# Altium footprint library PcbLib_Discrete.PcbLib: 28 footprints (part 2 of 2)
Each footprint in its own frame and in the unit in brackets; x right, y up, seen from the top. Pads: shape width x height; smd on the part's side, far side on the other; paste and mask are expansions set on the pad; w line width, h text height; cw(c..) or ccw(c..) is an arc to the next point about the centre after c.
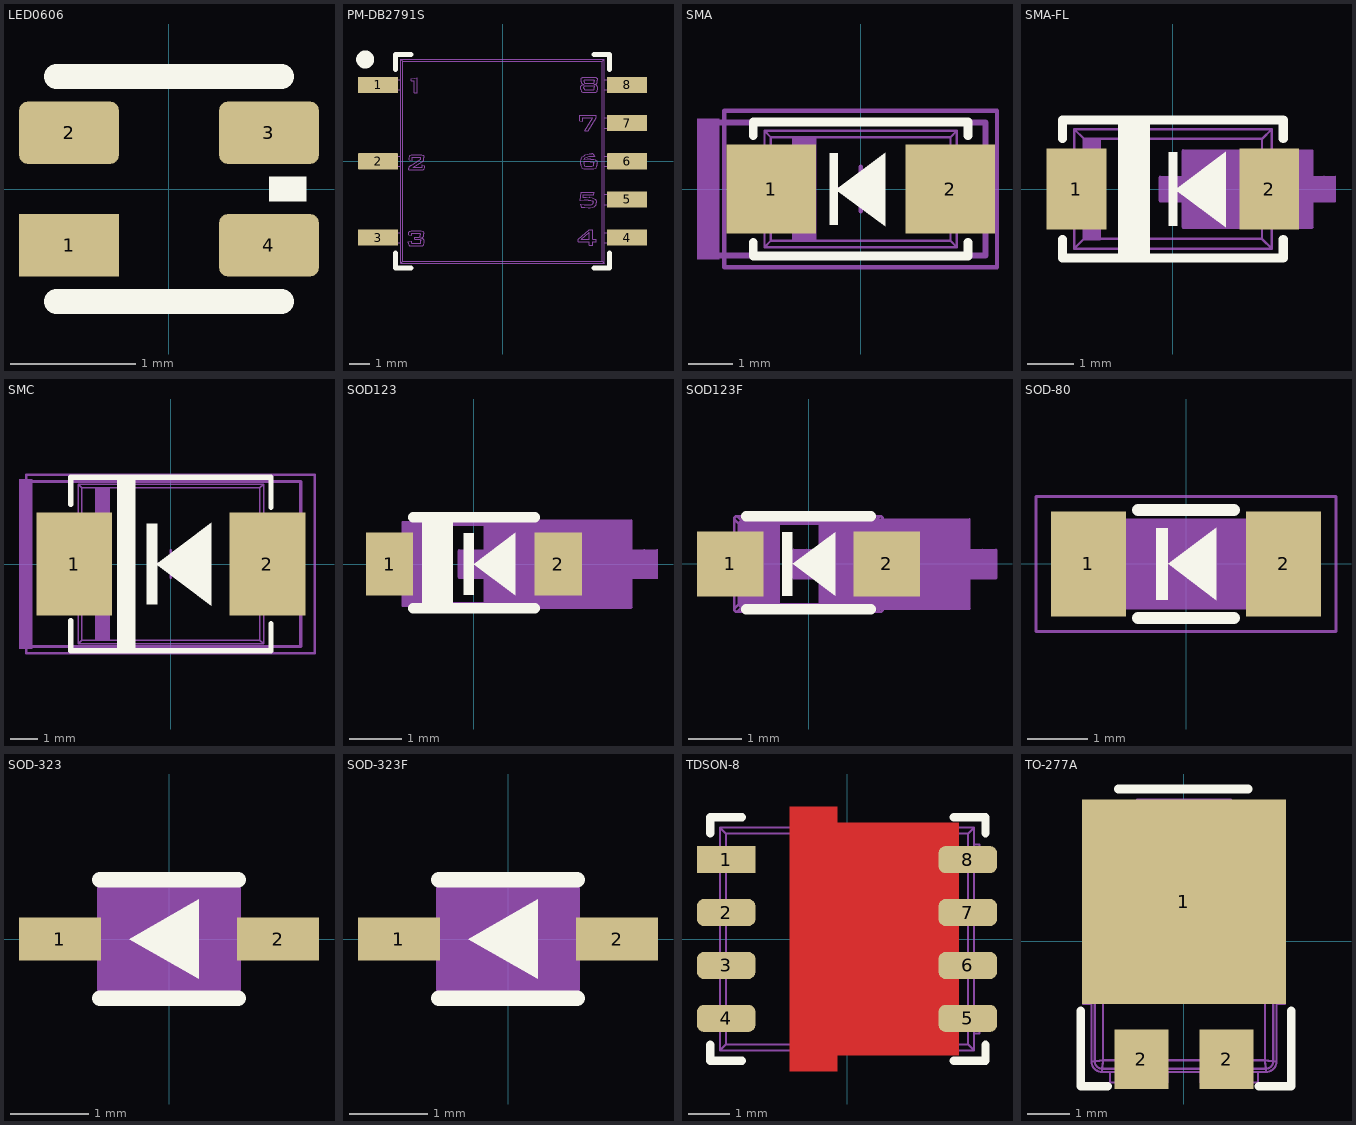
[diagram p1: the footprints below, top view; thin cyan lines are the x and y axes]

## LED0606 [mm] "RGB led 0606 (1616 Metric) package"
height 0.5
pads (4):
  rect 0.8x0.5 smd mask+0.1: 1(-0.8,-0.45)
  rrect30% 0.8x0.5 smd mask+0.1: 2(-0.8,0.45) 3(0.8,0.45) 4(0.8,-0.45)
Top Overlay:
  rectangle: 0.8,-0.1 1.1,0.1
  lines w0.2: -0.9,-0.9 0.9,-0.9 ; -0.9,0.9 0.9,0.9
3D body "STEP-WL-SFCD-0606-rev1.stp": height 0.4, standoff 0, extent -0.8,-0.8 0.8,0.8

## PM-DB2791S [mm]
height 1.1
pads (8):
  rrect5% 2x0.8 smd mask+0.1: 1(-6.215,3.81) 2(-6.215,0) 3(-6.215,-3.81) 4(6.215,-3.81) 5(6.215,-1.905) 6(6.215,0) 7(6.215,1.905) 8(6.215,3.81)
Top Overlay:
  circle w0.5: c-6.858,5.08 r0.2
  lines w0.254: -5.334,-4.572 -5.334,-5.334 -4.572,-5.334 ; -5.334,4.572 -5.334,5.334 -4.572,5.334 ; 4.572,-5.334 5.334,-5.334 5.334,-4.572 ; 4.572,5.334 5.334,5.334 5.334,4.572
Mechanical 13:
  drawing of 452 lines, arcs and shapes, not listed
  text ".Designator" at -3.443,-0.467 h2
3D body "PM-DB2791S.STEP": height 5.58, standoff -0.05, extent -6.361,-5.07 6.341,5.09

## SMA [mm] "Molded Diode, 2-Leads, Body 4.3x2.6mm, IPC Medium Density, based on OnSemi component dimensions and land pattern"
height 2.27
pads (2):
  rect 2x2 smd: 1(-2,0) 2(2,0)
Top Overlay:
  rectangle: -0.7,-0.8 -0.5,0.8
  region: 0.55,0.812 -0.55,-0.013 0.55,-0.838
  lines w0.2: -2.4,-1.2 -2.4,-1.5 2.4,-1.5 2.4,-1.2 ; -2.4,1.2 -2.4,1.5 2.4,1.5 2.4,1.2
Mechanical 5:
  rectangle: -3.658,-1.575 -3.15,1.575
  lines w0.127: -3.327,-1.486 2.794,-1.486 2.794,1.486 -3.327,1.486
  text ".Designator" at -2.769,-0.33 h1.02
Mechanical 13:
  rectangle: -1.511,-1.159 -1.011,1.159
  lines w0.05: -2.45,-0.75 -2.45,0.75 ; -2.45,-0.75 -2.15,-0.75 ; -2.45,-0.75 -2.6,-0.75 -2.6,0.75 -2.45,0.75 ; -2.45,0.75 -2.15,0.75 ; -2.15,-1.3 -2.15,-0.75 ; -2.15,-1.3 -2.011,-1.159 ; -2.15,-1.3 2.15,-1.3 ; -2.15,-0.75 -2.15,0.75 ; -2.15,0.75 -2.15,1.3 ; -2.15,1.3 -2.011,1.159 ; -2.15,1.3 2.15,1.3 ; -2.011,-1.159 -2.011,1.159 ; -2.011,-1.159 -1.511,-1.159 ; -2.011,1.159 -1.511,1.159 ; -1.511,-1.159 -1.511,1.159 ; -1.511,-1.159 -1.011,-1.159 ; -1.511,1.159 -1.011,1.159 ; -1.011,-1.159 -1.011,1.159 ; -1.011,-1.159 2.011,-1.159 ; -1.011,1.159 2.011,1.159 ; 2.011,-1.159 2.011,1.159 ; 2.011,-1.159 2.15,-1.3 ; 2.011,1.159 2.15,1.3 ; 2.15,-1.3 2.15,-0.75 ; 2.15,-0.75 2.45,-0.75 ; 2.15,-0.75 2.15,0.75 ; 2.15,0.75 2.45,0.75 ; 2.15,0.75 2.15,1.3 ; 2.45,-0.75 2.45,0.75 ; 2.45,-0.75 2.6,-0.75 2.6,0.75 2.45,0.75
  text ".Designator" at -2.579,-0.349 h1.5
Mechanical 15:
  lines w0.1: -0.5,0 0.5,0 ; 0,-0.5 0,0.5 ; -3.05,-1.75 -3.05,1.75 3.05,1.75 3.05,-1.75 -3.05,-1.75
3D body "SMA_nominal.stp": height 2.42, standoff 0.02, extent -2.6,-1.3 2.6,1.3

## SMA-FL [mm] "SMA-FL Case 403AA Style 6"
pads (2):
  rect 1.3x1.76 smd: 1(-2.1,0) 2(2.1,0)
Top Overlay:
  rectangle: -0.1,-0.8 0.1,0.8
  rectangle: -1.2,-1.5 -0.5,1.4
  region: 1.15,0.812 0.05,-0.013 1.15,-0.838
  lines w0.2: -2.4,-1.1 -2.4,-1.5 2.4,-1.5 2.4,-1.1 ; -2.4,1.1 -2.4,1.5 2.4,1.5 2.4,1.1
Mechanical 3:
  lines w0.013: 0.2,-0.275 0.1,-0.275 ; 0.2,0.275 0.1,0.275 ; 3.05,-0.275 3.15,-0.275 ; 3.05,0.275 3.15,0.275 ; -0.3,-0.255 ccw(c-0.28,-0.255) -0.28,-0.275 ; -0.3,-0.255 -0.28,-0.255 ; -0.3,-0.255 -0.3,0.255 ; -0.3,0.255 cw(c-0.28,0.255) -0.28,0.275 ; -0.3,0.255 -0.28,0.255 ; -0.28,-0.275 -0.28,-0.255 ; -0.28,-0.275 -0.1,-0.275 ; -0.28,-0.255 -0.28,0.255 ; -0.28,-0.255 -0.1,-0.255 ; -0.28,0.255 -0.28,0.275 ; -0.28,0.255 -0.1,0.255 ; -0.28,0.275 -0.1,0.275 ; -0.1,-0.275 -0.1,-0.255 ; -0.1,-0.275 -0.03,-0.275 ; -0.1,-0.255 -0.1,0.255 ; -0.1,-0.255 -0.05,-0.255 ; -0.1,0.255 -0.1,0.275 ; -0.1,0.255 -0.05,0.255 ; -0.1,0.275 -0.03,0.275 ; -0.05,-0.255 ccw(c-0.03,-0.255) -0.03,-0.275 ; -0.05,-0.255 0.1,-0.255 ; -0.05,-0.255 -0.05,0.255 ; -0.05,0.255 cw(c-0.03,0.255) -0.03,0.275 ; -0.05,0.255 0.1,0.255 ; -0.03,-0.275 0.1,-0.275 ; -0.03,0.275 0.1,0.275 ; 0.1,-0.275 0.1,-0.255 ; 0.1,-0.255 0.1,0.255 ; 0.1,-0.255 0.2,-0.255 ; 0.1,0.255 0.1,0.275 ; 0.1,0.255 0.2,0.255 ; 0.2,-0.83 ccw(c0.22,-0.83) 0.22,-0.85 ; 0.2,-0.83 0.266,-0.764 ; 0.2,-0.83 0.2,-0.255 ; 0.2,-0.83 0.2,-0.83 ; 0.2,-0.255 0.2,0.255 ; 0.2,0.255 0.2,0.83 ; 0.2,0.83 cw(c0.22,0.83) 0.22,0.85 ; 0.2,0.83 0.266,0.764 ; 0.2,0.83 0.2,0.83 ; 0.22,-0.85 0.286,-0.784 ; 0.22,-0.85 0.22,-0.85 ; 0.22,-0.85 3.03,-0.85 ; 0.22,0.85 0.286,0.784 ; 0.22,0.85 0.22,0.85 ; 0.22,0.85 3.03,0.85 ; 0.266,-0.764 ccw(c0.286,-0.764) 0.286,-0.784 ; 0.266,-0.764 0.266,0.764 ; 0.266,-0.764 0.286,-0.764 ; 0.266,0.764 cw(c0.286,0.764) 0.286,0.784 ; 0.266,0.764 0.286,0.764 ; 0.286,-0.784 2.964,-0.784 ; 0.286,-0.784 0.286,-0.764 ; 0.286,-0.764 0.286,0.764 ; 0.286,-0.764 0.736,-0.764 ; 0.286,0.764 0.286,0.784 ; 0.286,0.764 0.736,0.764 ; 0.286,0.784 2.964,0.784 ; 0.736,-0.764 2.964,-0.764 ; 0.736,-0.764 0.736,0.764 ; 0.736,0.764 2.964,0.764 ; 2.964,-0.784 ccw(c2.964,-0.764) 2.984,-0.764 ; 2.964,-0.784 3.03,-0.85 ; 2.964,-0.784 2.964,-0.764 ; 2.964,-0.764 2.984,-0.764 ; 2.964,-0.764 2.964,0.764 ; 2.964,0.764 2.984,0.764 ; 2.964,0.764 2.964,0.784 ; 2.964,0.784 cw(c2.964,0.764) 2.984,0.764 ; 2.964,0.784 3.03,0.85 ; 2.984,-0.764 3.05,-0.83 ; 2.984,-0.764 2.984,0.764 ; 2.984,0.764 3.05,0.83 ; 3.03,-0.85 ccw(c3.03,-0.83) 3.05,-0.83 ; 3.03,-0.85 3.03,-0.85 ; 3.03,0.85 cw(c3.03,0.83) 3.05,0.83 ; 3.03,0.85 3.03,0.85 ; 3.05,-0.83 3.05,-0.83 ; 3.05,-0.83 3.05,-0.255 ; 3.05,-0.255 3.15,-0.255 ; 3.05,-0.255 3.05,0.255 ; 3.05,0.255 3.15,0.255 ; 3.05,0.255 3.05,0.83 ; 3.05,0.83 3.05,0.83 ; 3.15,-0.275 3.15,-0.255 ; 3.15,-0.275 3.28,-0.275 ; 3.15,-0.255 3.3,-0.255 ; 3.15,-0.255 3.15,0.255 ; 3.15,0.255 3.3,0.255 ; 3.15,0.255 3.15,0.275 ; 3.15,0.275 3.28,0.275 ; 3.28,-0.275 ccw(c3.28,-0.255) 3.3,-0.255 ; 3.28,-0.275 3.35,-0.275 ; 3.28,0.275 cw(c3.28,0.255) 3.3,0.255 ; 3.28,0.275 3.35,0.275 ; 3.3,-0.255 3.35,-0.255 ; 3.3,-0.255 3.3,0.255 ; 3.3,0.255 3.35,0.255 ; 3.35,-0.275 3.35,-0.255 ; 3.35,-0.275 3.53,-0.275 ; 3.35,-0.255 3.53,-0.255 ; 3.35,-0.255 3.35,0.255 ; 3.35,0.255 3.53,0.255 ; 3.35,0.255 3.35,0.275 ; 3.35,0.275 3.53,0.275 ; 3.53,-0.275 ccw(c3.53,-0.255) 3.55,-0.255 ; 3.53,-0.275 3.53,-0.255 ; 3.53,-0.255 3.55,-0.255 ; 3.53,-0.255 3.53,0.255 ; 3.53,0.255 3.53,0.275 ; 3.53,0.255 3.55,0.255 ; 3.53,0.275 cw(c3.53,0.255) 3.55,0.255 ; 3.55,-0.255 3.55,0.255
  text ".Designator" at 0.825,-0.35 h1
Mechanical 4:
  rectangle: 0.2,-0.85 3.05,0.85
  rectangle: -0.3,-0.275 0.2,0.275
  rectangle: 3.05,-0.275 3.55,0.275
Mechanical 13:
  rectangle: -1.941,-1.086 -1.586,1.096
  lines w0.05: -2.147,-0.722 -2.147,-1.297 ; -2.147,0.728 -2.147,1.303 ; -1.586,-1.086 1.941,-1.086 ; -1.586,1.091 1.941,1.091 ; 2.153,-0.722 2.153,-1.297 ; 2.153,0.728 2.153,1.303 ; -2.147,-1.297 -1.941,-1.091 ; -2.147,-1.297 2.153,-1.297 ; -2.147,1.303 -1.941,1.096 ; -2.147,1.303 2.153,1.303 ; -1.941,-1.091 -1.941,1.096 ; -1.941,-1.091 -1.586,-1.091 -1.586,1.096 -1.941,1.096 ; 1.941,-1.086 2.153,-1.297 ; 1.941,-1.086 1.941,1.091 ; 1.941,1.091 2.153,1.303 ; -2.547,-0.722 -2.077,-0.722 -2.077,0.728 -2.547,0.728 -2.547,-0.722 ; 2.082,-0.722 2.553,-0.722 2.553,0.728 2.082,0.728 2.082,-0.722
  text ".Designator" at -2.064,-0.28 h1.2
3D body "User Library-sma-fl.step": height 1.25, standoff 0.05, extent -2.55,-1.3 2.55,1.3

## SMC [mil] "Molded Diode, 2-Leads, Body 6.9x5.8mm, IPC Medium Density, based on OnSemi component dimensions and land patterns"
height 94.88
pads (2):
  rect 110x150 smd: 1(-140.49,0) 2(140.49,0)
Top Overlay:
  rectangle: -35.43,-59.06 -19.68,59.06
  rectangle: -78.74,-125.98 -51.18,125.98
  region: 59.06,60.04 -21.65,-0.49 59.06,-61.02
  lines w7.87: -145.67,-82.68 -145.67,-125.98 145.67,-125.98 145.67,-86.61 ; -145.67,86.61 -145.67,125.98 145.67,125.98 145.67,82.68
Mechanical 5:
  rectangle: -221,-123.5 -201,123.5
  lines w5: -210,-120 189,-120 189,120 -210,120
  text ".Designator" at -85,-20 h40
Mechanical 13:
  rectangle: -109.68,-110.61 -89.99,110.61
  lines w1.97: -150.59,-59.06 -134.84,-59.06 ; -150.59,-59.06 -156.5,-59.06 -156.5,59.06 -150.59,59.06 ; -150.59,-59.06 -150.59,59.06 ; -150.59,59.06 -134.84,59.06 ; -134.84,-116.14 134.84,-116.14 ; -134.84,-116.14 -129.36,-110.61 ; -134.84,-116.14 -134.84,-59.06 ; -134.84,-59.06 -134.84,59.06 ; -134.84,59.06 -134.84,116.14 ; -134.84,116.14 134.84,116.14 ; -134.84,116.14 -129.36,110.61 ; -129.36,-110.61 -109.68,-110.61 ; -129.36,-110.61 -129.36,110.61 ; -129.36,110.61 -109.68,110.61 ; -109.68,-110.61 -89.99,-110.61 ; -109.68,-110.61 -109.68,110.61 ; -109.68,110.61 -89.99,110.61 ; -89.99,-110.61 129.36,-110.61 ; -89.99,-110.61 -89.99,110.61 ; -89.99,110.61 129.36,110.61 ; 129.36,-110.61 134.84,-116.14 ; 129.36,-110.61 129.36,110.61 ; 129.36,110.61 134.84,116.14 ; 134.84,-116.14 134.84,-59.06 ; 134.84,-59.06 134.84,59.06 ; 134.84,-59.06 150.59,-59.06 ; 134.84,59.06 134.84,116.14 ; 134.84,59.06 150.59,59.06 ; 150.59,-59.06 156.5,-59.06 156.5,59.06 150.59,59.06 ; 150.59,-59.06 150.59,59.06
  text ".Designator" at -135.56,-18.37 h78.74
Mechanical 15:
  lines w3.94: -19.69,0 19.68,0 ; 0,-19.68 0,19.69 ; -210.46,-129.92 -210.46,129.92 209.38,129.92 209.38,-129.92 -210.46,-129.92
3D body "SMC_nominal.stp": height 91.35, standoff 0.6, extent -156.49,-116.13 156.5,116.15

## SOD123 [mm]
pads (2):
  rect 0.91x1.22 smd: 1(-1.625,0) 2(1.625,0)
Top Overlay:
  rectangle: -1,-0.9 -0.4,0.9
  rectangle: -0.2,-0.6 0,0.6
  region: 0.8,0.6 0,0 0.8,-0.6
  lines w0.2: -1.175,-0.85 1.175,-0.85 ; -1.175,0.9 1.175,0.9
Mechanical 3:
  lines w0.013: 0.2,-0.275 0.1,-0.275 ; 0.2,0.275 0.1,0.275 ; 3.05,-0.275 3.15,-0.275 ; 3.05,0.275 3.15,0.275 ; -0.3,-0.255 ccw(c-0.28,-0.255) -0.28,-0.275 ; -0.3,-0.255 -0.3,0.255 ; -0.3,-0.255 -0.28,-0.255 ; -0.3,0.255 cw(c-0.28,0.255) -0.28,0.275 ; -0.3,0.255 -0.28,0.255 ; -0.28,-0.275 -0.1,-0.275 ; -0.28,-0.275 -0.28,-0.255 ; -0.28,-0.255 -0.1,-0.255 ; -0.28,-0.255 -0.28,0.255 ; -0.28,0.255 -0.1,0.255 ; -0.28,0.255 -0.28,0.275 ; -0.28,0.275 -0.1,0.275 ; -0.1,-0.275 -0.03,-0.275 ; -0.1,-0.275 -0.1,-0.255 ; -0.1,-0.255 -0.05,-0.255 ; -0.1,-0.255 -0.1,0.255 ; -0.1,0.255 -0.05,0.255 ; -0.1,0.255 -0.1,0.275 ; -0.1,0.275 -0.03,0.275 ; -0.05,-0.255 ccw(c-0.03,-0.255) -0.03,-0.275 ; -0.05,-0.255 -0.05,0.255 ; -0.05,-0.255 0.1,-0.255 ; -0.05,0.255 cw(c-0.03,0.255) -0.03,0.275 ; -0.05,0.255 0.1,0.255 ; -0.03,-0.275 0.1,-0.275 ; -0.03,0.275 0.1,0.275 ; 0.1,-0.275 0.1,-0.255 ; 0.1,-0.255 0.2,-0.255 ; 0.1,-0.255 0.1,0.255 ; 0.1,0.255 0.2,0.255 ; 0.1,0.255 0.1,0.275 ; 0.2,-0.83 ccw(c0.22,-0.83) 0.22,-0.85 ; 0.2,-0.83 0.2,-0.83 ; 0.2,-0.83 0.2,-0.255 ; 0.2,-0.83 0.266,-0.764 ; 0.2,-0.255 0.2,0.255 ; 0.2,0.255 0.2,0.83 ; 0.2,0.83 cw(c0.22,0.83) 0.22,0.85 ; 0.2,0.83 0.2,0.83 ; 0.2,0.83 0.266,0.764 ; 0.22,-0.85 3.03,-0.85 ; 0.22,-0.85 0.22,-0.85 ; 0.22,-0.85 0.286,-0.784 ; 0.22,0.85 3.03,0.85 ; 0.22,0.85 0.22,0.85 ; 0.22,0.85 0.286,0.784 ; 0.266,-0.764 ccw(c0.286,-0.764) 0.286,-0.784 ; 0.266,-0.764 0.286,-0.764 ; 0.266,-0.764 0.266,0.764 ; 0.266,0.764 cw(c0.286,0.764) 0.286,0.784 ; 0.266,0.764 0.286,0.764 ; 0.286,-0.784 0.286,-0.764 ; 0.286,-0.784 2.964,-0.784 ; 0.286,-0.764 0.736,-0.764 ; 0.286,-0.764 0.286,0.764 ; 0.286,0.764 0.736,0.764 ; 0.286,0.764 0.286,0.784 ; 0.286,0.784 2.964,0.784 ; 0.736,-0.764 0.736,0.764 ; 0.736,-0.764 2.964,-0.764 ; 0.736,0.764 2.964,0.764 ; 2.964,-0.784 ccw(c2.964,-0.764) 2.984,-0.764 ; 2.964,-0.784 2.964,-0.764 ; 2.964,-0.784 3.03,-0.85 ; 2.964,-0.764 2.964,0.764 ; 2.964,-0.764 2.984,-0.764 ; 2.964,0.764 2.964,0.784 ; 2.964,0.764 2.984,0.764 ; 2.964,0.784 cw(c2.964,0.764) 2.984,0.764 ; 2.964,0.784 3.03,0.85 ; 2.984,-0.764 2.984,0.764 ; 2.984,-0.764 3.05,-0.83 ; 2.984,0.764 3.05,0.83 ; 3.03,-0.85 ccw(c3.03,-0.83) 3.05,-0.83 ; 3.03,-0.85 3.03,-0.85 ; 3.03,0.85 cw(c3.03,0.83) 3.05,0.83 ; 3.03,0.85 3.03,0.85 ; 3.05,-0.83 3.05,-0.255 ; 3.05,-0.83 3.05,-0.83 ; 3.05,-0.255 3.05,0.255 ; 3.05,-0.255 3.15,-0.255 ; 3.05,0.255 3.05,0.83 ; 3.05,0.255 3.15,0.255 ; 3.05,0.83 3.05,0.83 ; 3.15,-0.275 3.28,-0.275 ; 3.15,-0.275 3.15,-0.255 ; 3.15,-0.255 3.15,0.255 ; 3.15,-0.255 3.3,-0.255 ; 3.15,0.255 3.15,0.275 ; 3.15,0.255 3.3,0.255 ; 3.15,0.275 3.28,0.275 ; 3.28,-0.275 ccw(c3.28,-0.255) 3.3,-0.255 ; 3.28,-0.275 3.35,-0.275 ; 3.28,0.275 cw(c3.28,0.255) 3.3,0.255 ; 3.28,0.275 3.35,0.275 ; 3.3,-0.255 3.3,0.255 ; 3.3,-0.255 3.35,-0.255 ; 3.3,0.255 3.35,0.255 ; 3.35,-0.275 3.53,-0.275 ; 3.35,-0.275 3.35,-0.255 ; 3.35,-0.255 3.35,0.255 ; 3.35,-0.255 3.53,-0.255 ; 3.35,0.255 3.35,0.275 ; 3.35,0.255 3.53,0.255 ; 3.35,0.275 3.53,0.275 ; 3.53,-0.275 ccw(c3.53,-0.255) 3.55,-0.255 ; 3.53,-0.275 3.53,-0.255 ; 3.53,-0.255 3.53,0.255 ; 3.53,-0.255 3.55,-0.255 ; 3.53,0.255 3.55,0.255 ; 3.53,0.255 3.53,0.275 ; 3.53,0.275 cw(c3.53,0.255) 3.55,0.255 ; 3.55,-0.255 3.55,0.255
  text ".Designator" at 0.825,-0.35 h1
Mechanical 4:
  rectangle: 3.05,-0.275 3.55,0.275
  rectangle: -0.3,-0.275 0.2,0.275
  rectangle: 0.2,-0.85 3.05,0.85
Mechanical 13:
  rectangle: -1.336,-0.761 -0.536,0.761
  lines w0.05: -1.85,-0.3 -1.375,-0.3 ; -1.85,-0.3 -1.85,0.3 ; -1.85,-0.3 -1.85,0.3 ; -1.85,-0.3 -1.55,-0.3 ; -1.85,0.3 -1.375,0.3 ; -1.85,0.3 -1.55,0.3 ; -1.55,-0.3 -1.55,0.3 ; -1.55,-0.3 -1.375,-0.3 ; -1.55,0.3 -1.375,0.3 ; -1.375,-0.8 -1.375,-0.3 ; -1.375,-0.8 1.375,-0.8 ; -1.375,-0.8 1.375,-0.8 ; -1.375,-0.8 -1.336,-0.761 ; -1.375,-0.8 -1.375,0.8 ; -1.375,0.3 -1.375,0.8 ; -1.375,0.8 1.375,0.8 ; -1.375,0.8 -1.336,0.761 ; -1.375,0.8 1.375,0.8 ; -1.336,-0.761 -0.536,-0.761 ; -1.336,-0.761 -1.336,0.761 ; -1.336,0.761 -0.536,0.761 ; -0.536,-0.761 1.336,-0.761 ; -0.536,-0.761 -0.536,0.761 ; -0.536,0.761 1.336,0.761 ; 1.336,-0.761 1.375,-0.8 ; 1.336,-0.761 1.336,0.761 ; 1.336,0.761 1.375,0.8 ; 1.375,-0.8 1.375,-0.3 ; 1.375,-0.8 1.375,0.8 ; 1.375,-0.3 1.85,-0.3 ; 1.375,-0.3 1.55,-0.3 ; 1.375,0.3 1.85,0.3 ; 1.375,0.3 1.375,0.8 ; 1.375,0.3 1.55,0.3 ; 1.55,-0.3 1.55,0.3 ; 1.55,-0.3 1.85,-0.3 ; 1.55,0.3 1.85,0.3 ; 1.85,-0.3 1.85,0.3 ; 1.85,-0.3 1.85,0.3
  text ".Designator" at -1.564,-0.28 h1.2
3D body "SOD123.STEP": height 1.46, standoff 0.01, extent -1.925,-0.85 1.925,0.85

## SOD123F [mm]
pads (2):
  rect 1.25x1.22 smd: 1(-1.475,0) 2(1.475,0)
Top Overlay:
  rectangle: -0.5,-0.6 -0.3,0.6
  region: 0.5,0.6 -0.3,0 0.5,-0.6
  lines w0.2: -1.175,-0.85 1.175,-0.85 ; -1.175,0.9 1.175,0.9
Mechanical 3:
  lines w0.013: 0.2,-0.275 0.1,-0.275 ; 0.2,0.275 0.1,0.275 ; 3.05,-0.275 3.15,-0.275 ; 3.05,0.275 3.15,0.275 ; -0.3,-0.255 ccw(c-0.28,-0.255) -0.28,-0.275 ; -0.3,-0.255 -0.28,-0.255 ; -0.3,-0.255 -0.3,0.255 ; -0.3,0.255 cw(c-0.28,0.255) -0.28,0.275 ; -0.3,0.255 -0.28,0.255 ; -0.28,-0.275 -0.28,-0.255 ; -0.28,-0.275 -0.1,-0.275 ; -0.28,-0.255 -0.28,0.255 ; -0.28,-0.255 -0.1,-0.255 ; -0.28,0.255 -0.28,0.275 ; -0.28,0.255 -0.1,0.255 ; -0.28,0.275 -0.1,0.275 ; -0.1,-0.275 -0.1,-0.255 ; -0.1,-0.275 -0.03,-0.275 ; -0.1,-0.255 -0.1,0.255 ; -0.1,-0.255 -0.05,-0.255 ; -0.1,0.255 -0.1,0.275 ; -0.1,0.255 -0.05,0.255 ; -0.1,0.275 -0.03,0.275 ; -0.05,-0.255 ccw(c-0.03,-0.255) -0.03,-0.275 ; -0.05,-0.255 0.1,-0.255 ; -0.05,-0.255 -0.05,0.255 ; -0.05,0.255 cw(c-0.03,0.255) -0.03,0.275 ; -0.05,0.255 0.1,0.255 ; -0.03,-0.275 0.1,-0.275 ; -0.03,0.275 0.1,0.275 ; 0.1,-0.275 0.1,-0.255 ; 0.1,-0.255 0.1,0.255 ; 0.1,-0.255 0.2,-0.255 ; 0.1,0.255 0.1,0.275 ; 0.1,0.255 0.2,0.255 ; 0.2,-0.83 ccw(c0.22,-0.83) 0.22,-0.85 ; 0.2,-0.83 0.266,-0.764 ; 0.2,-0.83 0.2,-0.255 ; 0.2,-0.83 0.2,-0.83 ; 0.2,-0.255 0.2,0.255 ; 0.2,0.255 0.2,0.83 ; 0.2,0.83 cw(c0.22,0.83) 0.22,0.85 ; 0.2,0.83 0.266,0.764 ; 0.2,0.83 0.2,0.83 ; 0.22,-0.85 0.286,-0.784 ; 0.22,-0.85 0.22,-0.85 ; 0.22,-0.85 3.03,-0.85 ; 0.22,0.85 0.286,0.784 ; 0.22,0.85 0.22,0.85 ; 0.22,0.85 3.03,0.85 ; 0.266,-0.764 ccw(c0.286,-0.764) 0.286,-0.784 ; 0.266,-0.764 0.266,0.764 ; 0.266,-0.764 0.286,-0.764 ; 0.266,0.764 cw(c0.286,0.764) 0.286,0.784 ; 0.266,0.764 0.286,0.764 ; 0.286,-0.784 2.964,-0.784 ; 0.286,-0.784 0.286,-0.764 ; 0.286,-0.764 0.286,0.764 ; 0.286,-0.764 0.736,-0.764 ; 0.286,0.764 0.286,0.784 ; 0.286,0.764 0.736,0.764 ; 0.286,0.784 2.964,0.784 ; 0.736,-0.764 2.964,-0.764 ; 0.736,-0.764 0.736,0.764 ; 0.736,0.764 2.964,0.764 ; 2.964,-0.784 ccw(c2.964,-0.764) 2.984,-0.764 ; 2.964,-0.784 3.03,-0.85 ; 2.964,-0.784 2.964,-0.764 ; 2.964,-0.764 2.984,-0.764 ; 2.964,-0.764 2.964,0.764 ; 2.964,0.764 2.984,0.764 ; 2.964,0.764 2.964,0.784 ; 2.964,0.784 cw(c2.964,0.764) 2.984,0.764 ; 2.964,0.784 3.03,0.85 ; 2.984,-0.764 3.05,-0.83 ; 2.984,-0.764 2.984,0.764 ; 2.984,0.764 3.05,0.83 ; 3.03,-0.85 ccw(c3.03,-0.83) 3.05,-0.83 ; 3.03,-0.85 3.03,-0.85 ; 3.03,0.85 cw(c3.03,0.83) 3.05,0.83 ; 3.03,0.85 3.03,0.85 ; 3.05,-0.83 3.05,-0.83 ; 3.05,-0.83 3.05,-0.255 ; 3.05,-0.255 3.15,-0.255 ; 3.05,-0.255 3.05,0.255 ; 3.05,0.255 3.15,0.255 ; 3.05,0.255 3.05,0.83 ; 3.05,0.83 3.05,0.83 ; 3.15,-0.275 3.15,-0.255 ; 3.15,-0.275 3.28,-0.275 ; 3.15,-0.255 3.3,-0.255 ; 3.15,-0.255 3.15,0.255 ; 3.15,0.255 3.3,0.255 ; 3.15,0.255 3.15,0.275 ; 3.15,0.275 3.28,0.275 ; 3.28,-0.275 ccw(c3.28,-0.255) 3.3,-0.255 ; 3.28,-0.275 3.35,-0.275 ; 3.28,0.275 cw(c3.28,0.255) 3.3,0.255 ; 3.28,0.275 3.35,0.275 ; 3.3,-0.255 3.35,-0.255 ; 3.3,-0.255 3.3,0.255 ; 3.3,0.255 3.35,0.255 ; 3.35,-0.275 3.35,-0.255 ; 3.35,-0.275 3.53,-0.275 ; 3.35,-0.255 3.53,-0.255 ; 3.35,-0.255 3.35,0.255 ; 3.35,0.255 3.53,0.255 ; 3.35,0.255 3.35,0.275 ; 3.35,0.275 3.53,0.275 ; 3.53,-0.275 ccw(c3.53,-0.255) 3.55,-0.255 ; 3.53,-0.275 3.53,-0.255 ; 3.53,-0.255 3.55,-0.255 ; 3.53,-0.255 3.53,0.255 ; 3.53,0.255 3.53,0.275 ; 3.53,0.255 3.55,0.255 ; 3.53,0.275 cw(c3.53,0.255) 3.55,0.255 ; 3.55,-0.255 3.55,0.255
  text ".Designator" at 0.825,-0.35 h1
Mechanical 4:
  rectangle: 0.2,-0.85 3.05,0.85
  rectangle: -0.3,-0.275 0.2,0.275
  rectangle: 3.05,-0.275 3.55,0.275
Mechanical 13:
  rectangle: -1.336,-0.761 -0.536,0.761
  lines w0.05: -1.4,-0.5 -1.9,-0.5 -1.9,0.5 -1.4,0.5 ; 1.4,-0.5 1.9,-0.5 1.9,0.5 1.4,0.5 ; -1.4,-0.85 ccw(c-1.349,-0.849) -1.35,-0.9 ; -1.4,-0.85 ccw(c-1.35,-0.85) -1.35,-0.9 ; -1.4,-0.85 -1.4,-0.85 ; -1.4,-0.85 -1.4,0.85 ; -1.4,-0.85 -1.305,-0.756 ; -1.4,-0.85 -1.4,0.85 ; -1.4,0.85 cw(c-1.349,0.849) -1.35,0.9 ; -1.4,0.85 cw(c-1.35,0.85) -1.35,0.9 ; -1.4,0.85 -1.4,0.85 ; -1.4,0.85 -1.305,0.756 ; -1.35,-0.9 -1.35,-0.9 ; -1.35,-0.9 1.35,-0.9 ; -1.35,-0.9 1.35,-0.9 ; -1.35,-0.9 -1.256,-0.805 ; -1.35,0.9 -1.35,0.9 ; -1.35,0.9 1.35,0.9 ; -1.35,0.9 -1.256,0.805 ; -1.35,0.9 1.35,0.9 ; -1.305,-0.756 ccw(c-1.255,-0.755) -1.256,-0.805 ; -1.305,-0.756 -1.305,0.756 ; -1.305,-0.756 -1.256,-0.756 ; -1.305,0.756 cw(c-1.255,0.755) -1.256,0.805 ; -1.305,0.756 -1.256,0.756 ; -1.256,-0.805 1.256,-0.805 ; -1.256,-0.805 -1.256,-0.756 ; -1.256,-0.756 -1.256,0.756 ; -1.256,-0.756 -1.049,-0.756 ; -1.256,0.756 -1.049,0.756 ; -1.256,0.756 -1.256,0.805 ; -1.256,0.805 1.256,0.805 ; -1.049,-0.756 -1.049,-0.786 -0.749,-0.786 -0.749,-0.756 ; -1.049,-0.756 -1.049,0.756 ; -1.049,0.756 -1.049,0.786 -0.749,0.786 -0.749,0.756 ; -0.749,-0.756 1.256,-0.756 ; -0.749,-0.756 -0.749,0.756 ; -0.749,0.756 1.256,0.756 ; 1.256,-0.805 ccw(c1.255,-0.755) 1.305,-0.756 ; 1.256,-0.805 1.35,-0.9 ; 1.256,-0.805 1.256,-0.756 ; 1.256,-0.756 1.256,0.756 ; 1.256,-0.756 1.305,-0.756 ; 1.256,0.756 1.298,0.756 ; 1.256,0.756 1.256,0.798 ; 1.256,0.798 cw(c1.238,0.739) 1.282,0.782 cw(c1.239,0.738) 1.298,0.756 ; 1.256,0.798 1.256,0.805 ; 1.256,0.805 cw(c1.255,0.755) 1.305,0.756 ; 1.256,0.805 1.35,0.9 ; 1.298,0.756 1.305,0.756 ; 1.305,-0.756 1.4,-0.85 ; 1.305,-0.756 1.305,0.756 ; 1.305,0.756 1.4,0.85 ; 1.35,-0.9 ccw(c1.35,-0.85) 1.4,-0.85 ; 1.35,-0.9 1.35,-0.9 ; 1.35,-0.9 ccw(c1.349,-0.849) 1.4,-0.85 ; 1.35,0.9 cw(c1.349,0.849) 1.4,0.85 ; 1.35,0.9 1.35,0.9 ; 1.35,0.9 cw(c1.35,0.85) 1.4,0.85 ; 1.4,-0.85 1.4,-0.85 ; 1.4,-0.85 1.4,0.85 ; 1.4,-0.85 1.4,0.85 ; 1.4,0.85 1.4,0.85
  text ".Designator" at -1.564,-0.28 h1.2
3D body "User Library-SOD-123F.step": height 1.02, standoff 0, extent -1.9,-0.9 1.9,0.9

## SOD-80 [mm] "MELF Diode, 2-Leads, Body 3,50x1,50mm, IPC Medium Density"
height 1.6
pads (2):
  rect 1.25x1.75 smd: 1(-1.625,0) 2(1.625,0)
Top Overlay:
  rectangle: -0.5,-0.6 -0.3,0.6
  region: 0.5,0.6 -0.3,0 0.5,-0.6
  lines w0.2: -0.8,-0.9 0.8,-0.9 ; -0.8,0.9 0.8,0.9
Mechanical 3:
  lines w0.013: -1.49,-0.55 ccw(c-1.29,-0.55) -1.29,-0.75 ; -1.49,0.55 cw(c-1.29,0.55) -1.29,0.75 ; -0.29,0.75 -0.29,0.535 ; 1.41,-0.55 cw(c1.21,-0.55) 1.21,-0.75 ; 1.41,0.55 ccw(c1.21,0.55) 1.21,0.75 ; -1.74,-0.75 cw(c-1.74,-0.7) -1.79,-0.7 -1.79,0 -1.79,0.7 cw(c-1.74,0.7) -1.74,0.75 ; -1.74,-0.75 -1.54,-0.75 ; -1.74,-0.75 -1.74,0 -1.74,0.75 ; -1.74,0.75 -1.54,0.75 ; -1.54,-0.75 ccw(c-1.54,-0.7) -1.49,-0.7 -1.49,0 -1.49,0.7 ccw(c-1.54,0.7) -1.54,0.75 ; -1.54,-0.75 -1.54,0 -1.54,0.75 ; -1.29,-0.75 -0.29,-0.75 ; -1.29,-0.75 -1.29,-0.632 ; -1.29,-0.632 -0.29,-0.632 ; -1.29,-0.632 -1.29,0.535 ; -1.29,0.535 -0.29,0.535 ; -1.29,0.535 -1.29,0.75 ; -1.29,0.75 -0.29,0.75 1.21,0.75 ; -0.29,-0.75 1.21,-0.75 ; -0.29,-0.75 -0.29,-0.632 ; -0.29,-0.632 -0.29,0.535 ; 1.21,-0.75 1.21,0 1.21,0.75 ; 1.46,-0.75 cw(c1.46,-0.7) 1.41,-0.7 1.41,0 1.41,0.7 cw(c1.46,0.7) 1.46,0.75 ; 1.46,-0.75 1.66,-0.75 ; 1.46,-0.75 1.46,0 1.46,0.75 ; 1.46,0.75 1.66,0.75 ; 1.66,-0.75 ccw(c1.66,-0.7) 1.71,-0.7 1.71,0 1.71,0.7 ccw(c1.66,0.7) 1.66,0.75 ; 1.66,-0.75 1.66,0 1.66,0.75
Mechanical 4:
  region: -1.483,-0.7 -1.483,-0.623 -1.472,-0.653 -1.433,-0.702 -1.382,-0.738 -1.321,-0.757 -1.29,-0.757 1.21,-0.757 1.241,-0.757 1.302,-0.738 1.353,-0.702 1.392,-0.653 1.403,-0.623 1.403,-0.7 1.403,-0.703 1.407,-0.707 1.413,-0.707 1.417,-0.703 1.417,-0.7 1.417,0.7 1.417,0.703 1.413,0.707 1.407,0.707 1.403,0.703 1.403,0.7 1.403,0.623 1.392,0.653 1.353,0.702 1.302,0.738 1.241,0.757 1.21,0.757 -1.29,0.757 -1.321,0.757 -1.382,0.738 -1.433,0.702 -1.472,0.653 -1.483,0.623 -1.483,0.7 -1.483,0.703 -1.487,0.707 -1.493,0.707 -1.497,0.703 -1.497,0.7 -1.497,-0.7 -1.497,-0.703 -1.493,-0.707 -1.487,-0.707 -1.483,-0.703
  region: 1.41,-0.7 1.41,-0.71 1.418,-0.728 1.432,-0.742 1.45,-0.75 1.46,-0.75 1.66,-0.75 1.67,-0.75 1.688,-0.742 1.702,-0.728 1.71,-0.71 1.71,-0.7 1.71,0.7 1.71,0.71 1.702,0.728 1.688,0.742 1.67,0.75 1.66,0.75 1.46,0.75 1.45,0.75 1.432,0.742 1.418,0.728 1.41,0.71 1.41,0.7
  region: -1.79,-0.7 -1.79,-0.71 -1.782,-0.728 -1.768,-0.742 -1.75,-0.75 -1.74,-0.75 -1.54,-0.75 -1.53,-0.75 -1.512,-0.742 -1.498,-0.728 -1.49,-0.71 -1.49,-0.7 -1.49,0.7 -1.49,0.71 -1.498,0.728 -1.512,0.742 -1.53,0.75 -1.54,0.75 -1.74,0.75 -1.75,0.75 -1.768,0.742 -1.782,0.728 -1.79,0.71 -1.79,0.7
Mechanical 13:
  rectangle: -1.07,-0.725 -0.57,0.725
  lines w0.05: -1.38,-0.53 cw(c-1.35,-0.53) -1.35,-0.5 ; -1.38,0.53 ccw(c-1.35,0.53) -1.35,0.5 ; -1.32,-0.5 -1.35,-0.5 ; -1.32,0.5 -1.35,0.5 ; -1.07,-0.725 -1.12,-0.725 ; -1.07,0.725 -1.12,0.725 ; -0.57,-0.725 1.18,-0.725 ; -0.57,0.725 1.18,0.725 ; 1.38,-0.525 cw(c1.18,-0.525) 1.18,-0.725 ; 1.38,0.525 ccw(c1.18,0.525) 1.18,0.725 ; -1.7,-0.8 cw(c-1.7,-0.65) -1.85,-0.65 -1.85,0.65 cw(c-1.7,0.65) -1.7,0.8 ; -1.7,-0.8 -1.53,-0.8 ; -1.7,-0.8 -1.7,0.8 ; -1.7,0.8 -1.53,0.8 ; -1.53,-0.8 ccw(c-1.53,-0.65) -1.38,-0.65 -1.38,0.65 ccw(c-1.53,0.65) -1.53,0.8 ; -1.53,-0.8 -1.53,0.8 ; -1.35,-0.5 -1.35,0.5 ; -1.12,-0.725 cw(c-1.12,-0.525) -1.32,-0.525 -1.32,0.525 cw(c-1.12,0.525) -1.12,0.725 ; -1.12,-0.725 -1.12,0.725 ; 1.18,-0.725 1.18,0.725 ; 1.53,-0.8 cw(c1.53,-0.65) 1.38,-0.65 1.38,0.65 cw(c1.53,0.65) 1.53,0.8 ; 1.53,-0.8 1.7,-0.8 ; 1.53,-0.8 1.53,0.8 ; 1.53,0.8 1.7,0.8 ; 1.7,-0.8 ccw(c1.7,-0.65) 1.85,-0.65 1.85,0.65 ccw(c1.7,0.65) 1.7,0.8 ; 1.7,-0.8 1.7,0.8 ; -1.07,-0.726 -0.57,-0.726 -0.57,0.726 -1.07,0.726 -1.07,-0.726
  text ".Designator" at -1.174,-0.186 h0.8
Mechanical 15:
  lines w0.05: -2.5,-1.125 2.5,-1.125 2.5,1.125 -2.5,1.125 -2.5,-1.125
  lines w0.1: -0.5,0 0.5,0 ; 0,-0.5 0,0.5
3D body "User Library-MiniMelf-23.STEP": height 1.6, standoff 0, extent -1.88,-0.8 1.82,0.8

## SOD-323 [mm]
height 1.6
pads (2):
  rect 1.05x0.55 smd: 1(-1.4,0) 2(1.4,0)
Top Overlay:
  region: 0.381,0.508 0.381,-0.508 -0.508,0
  lines w0.2: -0.889,-0.762 0.889,-0.762 ; -0.889,0.762 0.889,0.762
Mechanical 3:
  lines w0.013: -0.797,-0.57 -0.795,-0.57 -0.795,-0.572 ; -0.797,-0.57 -0.797,0.57 ; -0.797,-0.57 -0.9,-0.675 -0.795,-0.572 ; -0.797,0.57 -0.795,0.57 -0.795,0.572 ; -0.797,0.57 -0.9,0.675 -0.795,0.572 ; -0.795,-0.572 0.795,-0.572 ; -0.795,0.572 0.795,0.572 ; -0.16,-0.57 0.79,-0.57 0.79,0.57 -0.16,0.57 ; -0.16,-0.57 -0.79,-0.57 -0.79,0.57 -0.16,0.57 ; -0.16,-0.57 -0.16,0.57 ; 0.795,-0.572 0.795,-0.57 0.797,-0.57 ; 0.795,-0.572 0.9,-0.675 0.797,-0.57 ; 0.795,0.572 0.795,0.57 0.797,0.57 ; 0.795,0.572 0.9,0.675 0.797,0.57 ; 0.797,-0.57 0.797,0.57 ; -1.35,-0.2 -1.35,0.2 -0.9,0.2 -0.9,-0.2 -1.35,-0.2 ; -0.9,-0.675 0.9,-0.675 0.9,0.675 -0.9,0.675 -0.9,-0.675 ; 0.9,-0.2 1.35,-0.2 1.35,0.2 0.9,0.2 0.9,-0.2
  text ".Designator" at -0.65,-0.35 h1
Mechanical 4:
  rectangle: -1.35,-0.2 -0.9,0.2
  rectangle: 0.9,-0.2 1.35,0.2
  rectangle: -0.9,-0.675 0.9,0.675
Mechanical 13:
  rectangle: -0.818,-0.613 -0.569,0.613
  lines w0.05: -0.9,-0.2 -0.9,-0.675 ; -0.9,0.2 -0.9,0.675 ; 0.9,-0.2 0.9,-0.675 ; 0.9,0.2 0.9,0.675 ; -1.157,-0.2 -1.157,0.2 ; -1.157,-0.2 -1.3,-0.2 -1.3,0.2 -1.157,0.2 ; -1.157,-0.2 -1.11,-0.2 ; -1.157,0.2 -1.11,0.2 ; -1.11,-0.2 -0.91,-0.2 ; -1.11,-0.2 -1.11,0.2 ; -1.11,0.2 -0.91,0.2 ; -0.91,-0.2 -0.91,0.2 ; -0.91,-0.2 -0.879,-0.2 -0.879,0.2 -0.91,0.2 ; -0.9,-0.675 -0.838,-0.613 ; -0.9,-0.675 0.9,-0.675 ; -0.9,0.675 0.9,0.675 ; -0.9,0.675 -0.838,0.613 ; -0.838,-0.613 -0.838,0.613 ; -0.838,-0.613 -0.3,-0.613 ; -0.838,0.613 -0.3,0.613 ; -0.3,-0.613 -0.3,-0.613 ; -0.3,-0.613 0.838,-0.613 ; -0.3,0.613 -0.3,0.613 ; -0.3,0.613 0.838,0.613 ; 0.838,-0.613 0.838,0.613 ; 0.838,-0.613 0.9,-0.675 ; 0.838,0.613 0.9,0.675 ; 0.91,-0.2 0.91,0.2 ; 0.91,-0.2 0.879,-0.2 0.879,0.2 0.91,0.2 ; 0.91,-0.2 1.11,-0.2 ; 0.91,0.2 1.11,0.2 ; 1.11,-0.2 1.157,-0.2 ; 1.11,-0.2 1.11,0.2 ; 1.11,0.2 1.157,0.2 ; 1.157,-0.2 1.157,0.2 ; 1.157,-0.2 1.3,-0.2 1.3,0.2 1.157,0.2
  text ".Designator" at -1.374,-0.186 h0.8
3D body "User Library-SOD-323-2.step": height 1.1, standoff 0, extent -1.3,-0.675 1.3,0.675

## SOD-323F [mm]
pads (2):
  rect 1.05x0.55 smd: 1(-1.4,0) 2(1.4,0)
Top Overlay:
  region: 0.381,0.508 0.381,-0.508 -0.508,0
  lines w0.2: -0.889,-0.762 0.889,-0.762 ; -0.889,0.762 0.889,0.762
Mechanical 3:
  lines w0.013: -0.797,-0.57 -0.9,-0.675 -0.795,-0.572 ; -0.797,-0.57 -0.797,0.57 ; -0.797,-0.57 -0.795,-0.57 -0.795,-0.572 ; -0.797,0.57 -0.9,0.675 -0.795,0.572 ; -0.797,0.57 -0.795,0.57 -0.795,0.572 ; -0.795,-0.572 0.795,-0.572 ; -0.795,0.572 0.795,0.572 ; -0.16,-0.57 -0.16,0.57 ; -0.16,-0.57 -0.79,-0.57 -0.79,0.57 -0.16,0.57 ; -0.16,-0.57 0.79,-0.57 0.79,0.57 -0.16,0.57 ; 0.795,-0.572 0.9,-0.675 0.797,-0.57 ; 0.795,-0.572 0.795,-0.57 0.797,-0.57 ; 0.795,0.572 0.9,0.675 0.797,0.57 ; 0.795,0.572 0.795,0.57 0.797,0.57 ; 0.797,-0.57 0.797,0.57 ; -1.35,-0.2 -0.9,-0.2 -0.9,0.2 -1.35,0.2 -1.35,-0.2 ; -0.9,-0.675 -0.9,0.675 0.9,0.675 0.9,-0.675 -0.9,-0.675 ; 0.9,-0.2 0.9,0.2 1.35,0.2 1.35,-0.2 0.9,-0.2
  text ".Designator" at -0.65,-0.35 h1
Mechanical 4:
  rectangle: -0.9,-0.675 0.9,0.675
  rectangle: 0.9,-0.2 1.35,0.2
  rectangle: -1.35,-0.2 -0.9,0.2
Mechanical 13:
  rectangle: -0.79,-0.57 -0.5,0.57
  lines w0.05: -0.16,-0.57 0.79,-0.57 0.79,0.57 -0.16,0.57 ; -0.797,-0.57 -0.795,-0.57 -0.795,-0.572 ; -0.797,-0.57 -0.797,0.57 ; -0.797,-0.57 -0.9,-0.675 -0.795,-0.572 ; -0.797,0.57 -0.795,0.57 -0.795,0.572 ; -0.797,0.57 -0.9,0.675 -0.795,0.572 ; -0.795,-0.572 0.795,-0.572 ; -0.795,0.572 0.795,0.572 ; 0.795,-0.572 0.795,-0.57 0.797,-0.57 ; 0.795,-0.572 0.9,-0.675 0.797,-0.57 ; 0.795,0.572 0.795,0.57 0.797,0.57 ; 0.795,0.572 0.9,0.675 0.797,0.57 ; 0.797,-0.57 0.797,0.57 ; -1.35,-0.2 -1.35,0.2 -0.9,0.2 -0.9,-0.2 -1.35,-0.2 ; -0.9,-0.675 0.9,-0.675 0.9,0.675 -0.9,0.675 -0.9,-0.675 ; -0.79,-0.57 -0.5,-0.57 -0.5,0.57 -0.79,0.57 -0.79,-0.57 ; 0.9,-0.2 1.35,-0.2 1.35,0.2 0.9,0.2 0.9,-0.2
  text ".Designator" at -1.174,-0.186 h0.8
3D body "SW3dPS-SOD-323F.STEP": height 0.79, standoff -0.08, extent -1.35,-0.675 1.35,0.675

## TDSON-8 [mm] "TDSON-8, 8-Leads, Body 6,00x5,00mm, Pitch 1,27mm, Thermal Pad 4,1x2,4mm"
height 0.8
pads (8):
  rect 1.4x0.65 smd mask+0.1: 1(-2.9,1.905)
  rrect50% 1.4x0.65 smd mask+0.1: 2(-2.9,0.635) 3(-2.9,-0.635) 4(-2.9,-1.905) 5(2.9,-1.905) 6(2.9,-0.635) 7(2.9,0.635) 8(2.9,1.905)
Top Layer:
  region: -1.376,3.175 -0.233,3.175 -0.233,2.794 2.688,2.794 2.688,-2.794 -0.233,-2.794 -0.233,-3.175 -1.376,-3.175
Top Overlay:
  lines w0.2: -3.281,-2.54 -3.281,-2.921 -2.519,-2.921 ; -3.281,2.54 -3.281,2.921 -2.519,2.921 ; 2.561,-2.921 3.323,-2.921 3.323,-2.54 ; 2.561,2.921 3.323,2.921 3.323,2.54
Top Paste:
  rectangle: -0.8,1.7 -0.3,2.2
  rectangle: -0.8,1.1 -0.3,1.6
  rectangle: -0.8,0.5 -0.3,1
  rectangle: -0.8,-0.3 -0.3,0.4
  rectangle: -0.2,-0.3 0.4,0.4
  rectangle: -0.2,0.5 0.4,1
  rectangle: -0.2,1.1 0.4,1.6
  rectangle: -0.2,1.7 0.4,2.2
  rectangle: 0.5,-0.3 1.1,0.4
  rectangle: 0.5,0.5 1.1,1
  rectangle: 0.5,1.1 1.1,1.6
  rectangle: 0.5,1.7 1.1,2.2
  rectangle: 1.2,-0.3 1.8,0.4
  rectangle: 1.2,0.5 1.8,1
  rectangle: 1.2,1.1 1.8,1.6
  rectangle: 1.2,1.7 1.8,2.2
  rectangle: -0.8,-1 -0.3,-0.4
  rectangle: -0.8,-1.6 -0.3,-1.1
  rectangle: -0.8,-2.2 -0.3,-1.7
  rectangle: -0.2,-2.2 0.4,-1.7
  rectangle: -0.2,-1.6 0.4,-1.1
  rectangle: -0.2,-1 0.4,-0.4
  rectangle: 0.5,-2.2 1.1,-1.7
  rectangle: 0.5,-1.6 1.1,-1.1
  rectangle: 0.5,-1 1.1,-0.4
  rectangle: 1.2,-2.2 1.8,-1.7
  rectangle: 1.2,-1.6 1.8,-1.1
  rectangle: 1.2,-1 1.8,-0.4
Top Solder:
  region: 1.9,2.3 -0.9,2.3 -0.9,-2.3 1.9,-2.3
Mechanical 3:
  circle w0.013: c0.413,0.287 r0.07
  circle w0.013: c0.413,0.287 r0.075
  text ".Designator" at 1.3,1.5 h1.5
Mechanical 13:
  lines w0.05: -3.05,-2.125 -3.175,-2.125 -3.175,-1.685 -3.05,-1.685 ; -3.05,-0.855 -3.175,-0.855 -3.175,-0.415 -3.05,-0.415 ; -3.05,0.415 -3.175,0.415 -3.175,0.855 -3.05,0.855 ; -3.05,1.685 -3.175,1.685 -3.175,2.125 -3.05,2.125 ; -0.975,-2.675 -0.975,-2.795 -0.675,-2.795 -0.675,-2.675 ; -0.975,2.675 -0.975,2.795 -0.675,2.795 -0.675,2.675 ; 3.05,-2.27 3.175,-2.27 3.175,-1.83 3.05,-1.83 ; 3.05,-0.94 3.175,-0.94 3.175,-0.5 3.05,-0.5 ; 3.05,0.5 3.175,0.5 3.175,0.94 3.05,0.94 ; 3.05,1.83 3.175,1.83 3.175,2.27 3.05,2.27 ; -3.05,-2.675 3.05,-2.675 ; -3.05,-2.675 -3.05,2.675 ; -3.05,-2.675 -2.904,-2.529 ; -3.05,2.675 3.05,2.675 ; -3.05,2.675 -2.904,2.529 ; -2.904,-2.529 2.904,-2.529 ; -2.904,-2.529 -2.904,2.529 ; -2.904,2.529 2.904,2.529 ; 2.904,-2.529 3.05,-2.675 ; 2.904,-2.529 2.904,2.529 ; 2.904,2.529 3.05,2.675 ; 3.05,-2.675 3.05,2.675
  text ".Designator" at -3.443,-0.467 h2
3D body "User Library-TDSON-8 (INFIN).step": height 1.1, standoff -0.01, extent -3.146,-2.795 3.204,2.795

## TO-277A [mm]
pads (3):
  rect 4.8x4.8 smd: 1(0,0.925)
  rect 1.27x1.4 smd: 2(-1,-2.775) 2(1,-2.775)
Top Overlay:
  lines w0.2: -2.429,-1.632 -2.429,-3.41 -1.794,-3.41 ; -1.54,3.575 1.508,3.575 ; 1.762,-3.41 2.524,-3.41 2.524,-1.632
Mechanical 13:
  lines w0.05: -2.175,-1.475 -2.375,-1.475 -2.375,-0.725 -2.175,-0.725 ; -1.74,-3.075 -1.74,-3.325 -0.39,-3.325 -0.39,-3.075 ; -1.1,3.075 -1.1,3.325 1.1,3.325 1.1,3.075 ; 0.39,-3.075 0.39,-3.325 1.74,-3.325 1.74,-3.075 ; 2.175,-1.475 2.375,-1.475 2.375,-0.725 2.175,-0.725 ; -2.175,-2.825 ccw(c-1.925,-2.825) -1.925,-3.075 ; -2.175,-2.825 -2.098,-2.825 ; -2.175,-2.825 -2.175,2.825 ; -2.175,2.825 cw(c-1.925,2.825) -1.925,3.075 ; -2.175,2.825 -2.098,2.825 ; -2.098,-2.825 ccw(c-1.922,-2.822) -1.925,-2.998 ; -2.098,-2.825 -2.091,-2.824 -2.078,-2.822 -2.069,-2.821 -2.058,-2.82 -2.046,-2.818 -2.032,-2.817 -2.011,-2.814 -1.981,-2.81 -1.944,-2.805 -1.9,-2.8 ; -2.098,-2.825 -2.098,2.825 ; -2.098,2.825 cw(c-1.922,2.822) -1.925,2.998 ; -2.098,2.825 -2.091,2.824 -2.078,2.822 -2.069,2.821 -2.058,2.82 -2.046,2.818 -2.032,2.817 -2.011,2.814 -1.981,2.81 -1.944,2.805 -1.9,2.8 ; -1.925,-3.075 -1.925,-2.998 ; -1.925,-3.075 1.925,-3.075 ; -1.925,-2.998 -1.924,-2.991 -1.922,-2.978 -1.921,-2.965 -1.919,-2.95 -1.917,-2.932 -1.914,-2.911 -1.91,-2.881 -1.905,-2.844 -1.9,-2.8 ; -1.925,-2.998 1.925,-2.998 ; -1.925,2.998 -1.925,3.075 ; -1.925,2.998 -1.924,2.991 -1.922,2.978 -1.921,2.969 -1.92,2.958 -1.918,2.946 -1.917,2.932 -1.914,2.911 -1.91,2.881 -1.905,2.844 -1.9,2.8 ; -1.925,2.998 1.925,2.998 ; -1.925,3.075 1.925,3.075 ; -1.9,-2.8 -1.9,2.8 ; -1.9,-2.8 1.9,-2.8 ; -1.9,2.8 1.9,2.8 ; 1.9,-2.8 1.9,2.8 ; 1.9,-2.8 1.905,-2.844 1.91,-2.881 1.914,-2.911 1.917,-2.932 1.919,-2.95 1.921,-2.965 1.922,-2.978 1.924,-2.991 1.925,-2.998 ; 1.9,-2.8 1.944,-2.805 1.981,-2.81 2.011,-2.814 2.032,-2.817 2.05,-2.819 2.065,-2.821 2.078,-2.822 2.091,-2.824 2.098,-2.825 ; 1.9,2.8 1.944,2.805 1.981,2.81 2.011,2.814 2.032,2.817 2.05,2.819 2.065,2.821 2.078,2.822 2.091,2.824 2.098,2.825 ; 1.9,2.8 1.905,2.844 1.91,2.881 1.914,2.911 1.917,2.932 1.918,2.946 1.92,2.958 1.921,2.969 1.922,2.978 1.924,2.991 1.925,2.998 ; 1.925,-3.075 ccw(c1.925,-2.825) 2.175,-2.825 ; 1.925,-3.075 1.925,-2.998 ; 1.925,-2.998 ccw(c1.922,-2.822) 2.098,-2.825 ; 1.925,2.998 cw(c1.922,2.822) 2.098,2.825 ; 1.925,2.998 1.925,3.075 ; 1.925,3.075 cw(c1.925,2.825) 2.175,2.825 ; 2.098,-2.825 2.175,-2.825 ; 2.098,-2.825 2.098,2.825 ; 2.098,2.825 2.175,2.825 ; 2.175,-2.825 2.175,2.825
  text ".Designator" at 0.467,-3.443 h2
3D body "TO-277A.step": height 1.2, standoff 0, extent -2.375,-3.325 2.375,3.325